# Altium footprint library 2020-07-05_04-34-54.PcbLib: 3 footprints
Each footprint in its own frame and in the unit in brackets; x right, y up, seen from the top. Pads: shape width x height; smd on the part's side, far side on the other; paste and mask are expansions set on the pad; w line width, h text height; cw(c..) or ccw(c..) is an arc to the next point about the centre after c.
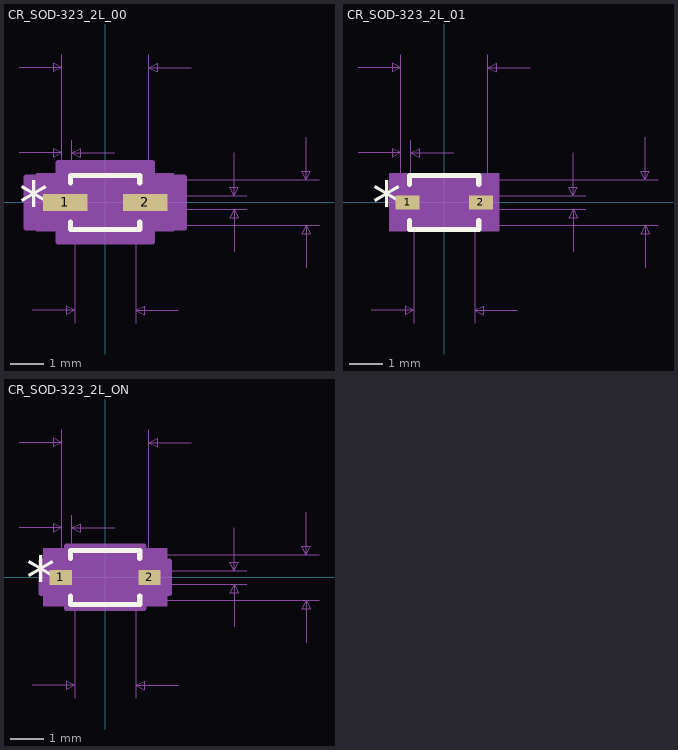
[diagram p0: the footprints below, top view; thin cyan lines are the x and y axes]

## CR_SOD-323_2L_00 [mil]
pads (2):
  rect 52x20 smd paste+0 mask+0: 1(-47,0) 2(47,0)
Top Overlay:
  lines w6: -40.5,-23.1 -40.5,-31.5 40.5,-31.5 40.5,-23.1 ; -40.5,23.1 -40.5,31.5 40.5,31.5 40.5,23.1
  text "*" at -100.5,-25 h50
Mechanical 5:
  region: 80.5,-34 -80.5,-34 -80.5,34 80.5,34
Mechanical 7:
  lines w1: -101,58 -51,58 ; -101,158 -51,158 ; -85.5,-126.5 -35.5,-126.5 ; -51,73 -51,0 -51,173 ; -39,0 -39,73 ; -35.5,-141.5 -35.5,0 ; 0,-26.5 250.5,-26.5 ; 0,26.5 250.5,26.5 ; 11,58 -39,58 ; 35.5,-141.5 35.5,0 ; 51,-8 166,-8 ; 51,0 51,173 ; 51,8 166,8 ; 85.5,-126.5 35.5,-126.5 ; 101,158 51,158 ; 151,-58 151,-8 ; 151,58 151,8 ; 235.5,-76.5 235.5,-26.5 ; 235.5,76.5 235.5,26.5 ; -51,58 -61,63 -61,53 -51,58 ; -51,158 -61,163 -61,153 -51,158 ; -39,58 -29,63 -29,53 -39,58 ; -35.5,-126.5 -45.5,-121.5 -45.5,-131.5 -35.5,-126.5 ; 35.5,-126.5 45.5,-121.5 45.5,-131.5 35.5,-126.5 ; 51,158 61,163 61,153 51,158 ; 151,-8 146,-18 156,-18 151,-8 ; 151,8 146,18 156,18 151,8 ; 235.5,-26.5 230.5,-36.5 240.5,-36.5 235.5,-26.5 ; 235.5,26.5 230.5,36.5 240.5,36.5 235.5,26.5
  text "Default Padstyle: RX52Y20D0T" at -350,-335 h50
  text "Alt 1 Padstyle: OX60Y90D30P" at -337.5,-410 h50
  text "Alt 2 Padstyle: OX90Y60D30P" at -337.5,-485 h50
  text "0.102in/2.591mm" at -93.75,178 h25
  text "0.012in/0.305mm" at -138.75,78 h25
  text "0.016in/0.406mm" at 171,-12.5 h25
  text "0.053in/1.346mm" at 255.5,-12.5 h25
  text "0.071in/1.803mm" at -93.75,-171.5 h25
Mechanical 13:
  lines w1: -35.5,-13.25 -22.25,-26.5 ; -35.5,13.25 -22.25,26.5 ; -51,-8 -51,8 -35.5,8 -35.5,-8 -51,-8 ; -35.5,-26.5 35.5,-26.5 35.5,26.5 -35.5,26.5 -35.5,-26.5 ; 35.5,-8 35.5,8 51,8 51,-8 35.5,-8
  text "*" at -38,-25 h50
Mechanical 15:
  region: -55.5,-30 -93,-30 -93,30 -55.5,30 -55.5,46.5 55.5,46.5 55.5,30 93,30 93,-30 55.5,-30 55.5,-46.5 -55.5,-46.5
  lines w6: -93,-30 -93,30 -55.5,30 -55.5,46.5 55.5,46.5 55.5,30 93,30 93,-30 55.5,-30 55.5,-46.5 -55.5,-46.5 -55.5,-30 -93,-30
3D body: height 10, standoff 0, extent 0,0 10,10

## CR_SOD-323_2L_01 [mil]
pads (2):
  rect 28x16 smd paste+0 mask+0: 1(-43,0) 2(43,0)
Top Overlay:
  lines w6: -40.5,-21.1 -40.5,-31.5 40.5,-31.5 40.5,-21.1 ; -40.5,21.1 -40.5,31.5 40.5,31.5 40.5,21.1
  text "*" at -84.5,-25 h50
Mechanical 5:
  region: 64.5,-34 -64.5,-34 -64.5,34 64.5,34
Mechanical 7:
  lines w1: -101,58 -51,58 ; -101,158 -51,158 ; -85.5,-126.5 -35.5,-126.5 ; -51,73 -51,0 -51,173 ; -39,0 -39,73 ; -35.5,-141.5 -35.5,0 ; 0,-26.5 250.5,-26.5 ; 0,26.5 250.5,26.5 ; 11,58 -39,58 ; 35.5,-141.5 35.5,0 ; 51,-8 166,-8 ; 51,0 51,173 ; 51,8 166,8 ; 85.5,-126.5 35.5,-126.5 ; 101,158 51,158 ; 151,-58 151,-8 ; 151,58 151,8 ; 235.5,-76.5 235.5,-26.5 ; 235.5,76.5 235.5,26.5 ; -51,58 -61,63 -61,53 -51,58 ; -51,158 -61,163 -61,153 -51,158 ; -39,58 -29,63 -29,53 -39,58 ; -35.5,-126.5 -45.5,-121.5 -45.5,-131.5 -35.5,-126.5 ; 35.5,-126.5 45.5,-121.5 45.5,-131.5 35.5,-126.5 ; 51,158 61,163 61,153 51,158 ; 151,-8 146,-18 156,-18 151,-8 ; 151,8 146,18 156,18 151,8 ; 235.5,-26.5 230.5,-36.5 240.5,-36.5 235.5,-26.5 ; 235.5,26.5 230.5,36.5 240.5,36.5 235.5,26.5
  text "Default Padstyle: RX28Y16D0T" at -350,-333 h50
  text "Alt 1 Padstyle: OX60Y90D30P" at -337.5,-408 h50
  text "Alt 2 Padstyle: OX90Y60D30P" at -337.5,-483 h50
  text "0.102in/2.591mm" at -93.75,178 h25
  text "0.012in/0.305mm" at -138.75,78 h25
  text "0.016in/0.406mm" at 171,-12.5 h25
  text "0.053in/1.346mm" at 255.5,-12.5 h25
  text "0.071in/1.803mm" at -93.75,-171.5 h25
Mechanical 13:
  lines w1: -35.5,-13.25 -22.25,-26.5 ; -35.5,13.25 -22.25,26.5 ; -51,-8 -51,8 -35.5,8 -35.5,-8 -51,-8 ; -35.5,-26.5 35.5,-26.5 35.5,26.5 -35.5,26.5 -35.5,-26.5 ; 35.5,-8 35.5,8 51,8 51,-8 35.5,-8
  text "*" at -38,-25 h50
Mechanical 15:
  region: -39.5,-12 -61,-12 -61,12 -39.5,12 -39.5,30.5 39.5,30.5 39.5,12 61,12 61,-12 39.5,-12 39.5,-30.5 -39.5,-30.5
  lines w6: -61,-12 -61,12 -39.5,12 -39.5,30.5 39.5,30.5 39.5,12 61,12 61,-12 39.5,-12 39.5,-30.5 -39.5,-30.5 -39.5,-12 -61,-12
3D body: height 10, standoff 0, extent 0,0 10,10

## CR_SOD-323_2L_ON [mil]
pads (2):
  rect 26x18 smd paste+0 mask+0: 1(-52,0) 2(52,0)
Top Overlay:
  lines w6: -40.5,-22.1 -40.5,-31.5 40.5,-31.5 40.5,-22.1 ; -40.5,22.1 -40.5,31.5 40.5,31.5 40.5,22.1
  text "*" at -92.5,-25 h50
Mechanical 5:
  region: 72.5,-34 -72.5,-34 -72.5,34 72.5,34
Mechanical 7:
  lines w1: -101,58 -51,58 ; -101,158 -51,158 ; -85.5,-126.5 -35.5,-126.5 ; -51,73 -51,0 -51,173 ; -39,0 -39,73 ; -35.5,-141.5 -35.5,0 ; 0,-26.5 250.5,-26.5 ; 0,26.5 250.5,26.5 ; 11,58 -39,58 ; 35.5,-141.5 35.5,0 ; 51,-8 166,-8 ; 51,0 51,173 ; 51,8 166,8 ; 85.5,-126.5 35.5,-126.5 ; 101,158 51,158 ; 151,-58 151,-8 ; 151,58 151,8 ; 235.5,-76.5 235.5,-26.5 ; 235.5,76.5 235.5,26.5 ; -51,58 -61,63 -61,53 -51,58 ; -51,158 -61,163 -61,153 -51,158 ; -39,58 -29,63 -29,53 -39,58 ; -35.5,-126.5 -45.5,-121.5 -45.5,-131.5 -35.5,-126.5 ; 35.5,-126.5 45.5,-121.5 45.5,-131.5 35.5,-126.5 ; 51,158 61,163 61,153 51,158 ; 151,-8 146,-18 156,-18 151,-8 ; 151,8 146,18 156,18 151,8 ; 235.5,-26.5 230.5,-36.5 240.5,-36.5 235.5,-26.5 ; 235.5,26.5 230.5,36.5 240.5,36.5 235.5,26.5
  text "Default Padstyle: RX26Y18D0T" at -350,-334 h50
  text "Alt 1 Padstyle: OX60Y90D30P" at -337.5,-409 h50
  text "Alt 2 Padstyle: OX90Y60D30P" at -337.5,-484 h50
  text "0.102in/2.591mm" at -93.75,178 h25
  text "0.012in/0.305mm" at -138.75,78 h25
  text "0.016in/0.406mm" at 171,-12.5 h25
  text "0.053in/1.346mm" at 255.5,-12.5 h25
  text "0.071in/1.803mm" at -93.75,-171.5 h25
Mechanical 13:
  lines w1: -35.5,-13.25 -22.25,-26.5 ; -35.5,13.25 -22.25,26.5 ; -51,-8 -51,8 -35.5,8 -35.5,-8 -51,-8 ; -35.5,-26.5 35.5,-26.5 35.5,26.5 -35.5,26.5 -35.5,-26.5 ; 35.5,-8 35.5,8 51,8 51,-8 35.5,-8
  text "*" at -38,-25 h50
Mechanical 15:
  region: -45.5,-19 -75,-19 -75,19 -45.5,19 -45.5,36.5 45.5,36.5 45.5,19 75,19 75,-19 45.5,-19 45.5,-36.5 -45.5,-36.5
  lines w6: -75,-19 -75,19 -45.5,19 -45.5,36.5 45.5,36.5 45.5,19 75,19 75,-19 45.5,-19 45.5,-36.5 -45.5,-36.5 -45.5,-19 -75,-19
3D body: height 10, standoff 0, extent 0,0 10,10